# EAGLE library part MOD_RM92A (library akita)
RF-Link, RM92A, LoRa module
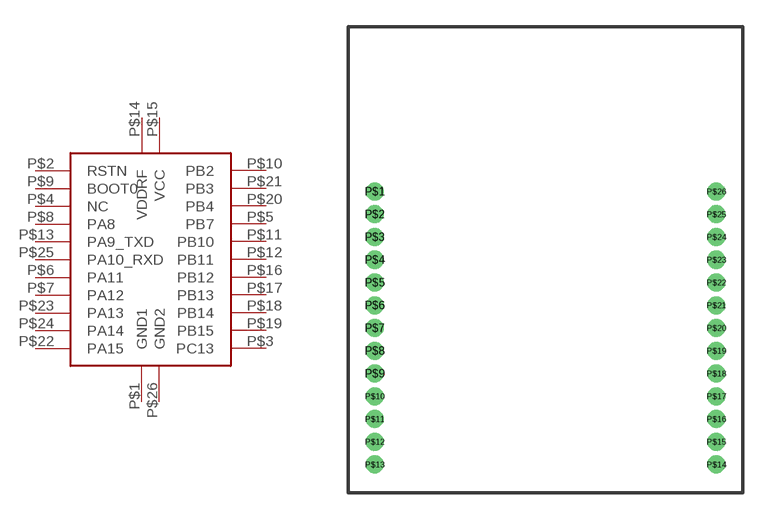
[diagram p157: symbol with the pads of MOD_RM92A; footprint MOD_RM92A]

Designator prefix U

## MOD_RM92A  [MOD_RM92A]
P$1  GND1
P$2  RSTN
P$3  PC13
P$4  NC
P$5  PB7
P$6  PA11
P$7  PA12
P$8  PA8
P$9  BOOT0
P$10  PB2
P$11  PB10
P$12  PB11
P$13  PA9_TXD
P$14  VDDRF
P$15  VCC
P$16  PB12
P$17  PB13
P$18  PB14
P$19  PB15
P$20  PB4
P$21  PB3
P$22  PA15
P$23  PA13
P$24  PA14
P$25  PA10_RXD
P$26  GND2

## Footprint MOD_RM92A (pad centres in mm)
RF-Link, RM92A, LoRa module
drill 0.5: P$1 -9.525,3.81; P$2 -9.525,2.54; P$3 -9.525,1.27; P$4 -9.525,0; P$5 -9.525,-1.27; P$6 -9.525,-2.54; P$7 -9.525,-3.81; P$8 -9.525,-5.08; P$9 -9.525,-6.35; P$10 -9.525,-7.62; P$11 -9.525,-8.89; P$12 -9.525,-10.16; P$13 -9.525,-11.43; P$14 9.525,-11.43; P$15 9.525,-10.16; P$16 9.525,-8.89; P$17 9.525,-7.62; P$18 9.525,-6.35; P$19 9.525,-5.08; P$20 9.525,-3.81; P$21 9.525,-2.54; P$22 9.525,-1.27; P$23 9.525,0; P$24 9.525,1.27; P$25 9.525,2.54; P$26 9.525,3.81